# Altium footprint library cel-packages.PcbLib: 1 footprints
Each footprint in its own frame and in the unit in brackets; x right, y up, seen from the top. Pads: shape width x height; smd on the part's side, far side on the other; paste and mask are expansions set on the pad; w line width, h text height; cw(c..) or ccw(c..) is an arc to the next point about the centre after c.
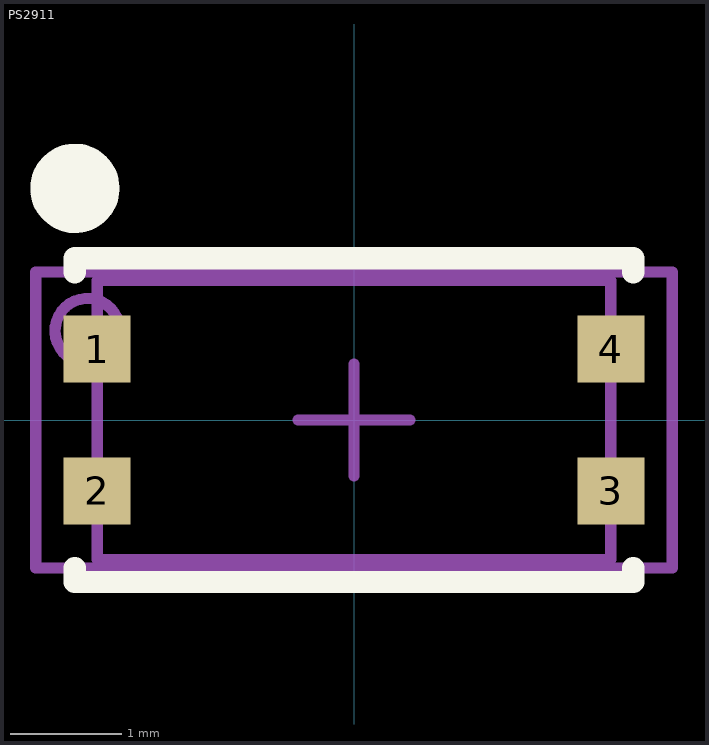
[diagram p0: the footprint, top view; thin cyan lines are the x and y axes]

## PS2911 [mm]
height 1.4
pads (4):
  rect 0.6x0.6 smd: 1(-2.3,0.635) 2(-2.3,-0.635) 3(2.3,-0.635) 4(2.3,0.635)
Top Overlay:
  circle w0.4: c-2.5,2.075 r0.2
  lines w0.2: -2.5,-1.325 -2.5,-1.45 2.5,-1.45 2.5,-1.325 ; -2.5,1.325 -2.5,1.45 2.5,1.45 2.5,1.325
Mechanical 13:
  lines w0.1: -0.5,0 0.5,0 ; 0,-0.5 0,0.5 ; -2.3,-1.25 2.3,-1.25 2.3,1.25 -2.3,1.25 -2.3,-1.25
Mechanical 15:
  lines w0.1: -2.1,0.825 ccw(c-2.388,0.8) -2.099,0.8 ; -2.85,-1.325 2.85,-1.325 2.85,1.325 -2.85,1.325 -2.85,-1.325
  text ".Designator" at -2.6,-0.15 h0.5
3D body: height 0.15, standoff 0, extent 2.3,0.435 2.5,0.835
3D body: height 1.4, standoff 0.05, extent -2.3,-1.25 2.3,1.25
3D body: height 0.15, standoff 0, extent -2.5,0.435 -2.3,0.835
3D body: height 0.15, standoff 0, extent 2.3,-0.835 2.5,-0.435
3D body: height 0.15, standoff 0, extent -2.5,-0.835 -2.3,-0.435